# Altium schematic symbol library CY7C1061AV33.Schlib: 1 symbol
Pins are listed as number, name and electrical type; pins without a type are passive.

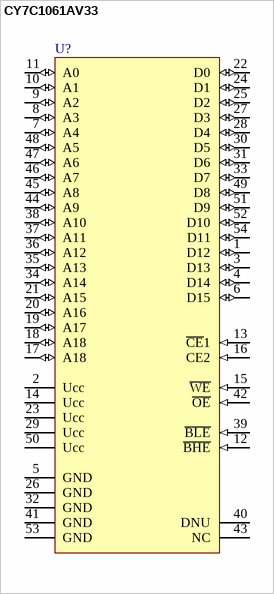
[diagram p0: symbol CY7C1061AV33]

## CY7C1061AV33
designator U?
1Mx16 Static RAM; Package Information: Latest Revision: ver11.0, Feb-2003; Configures: APEX II, APEX 20K, Mercury, ACEX 1K & FLEX Devices; Code - JEDEC: MS-026-ABA; Published: 17-Sep-2003; Datasheet: Latest Revision: ver1.1, Oct-2003; Package Reference: TQFP32; Publisher: Altium Limited
footprint SSOP-54
pins: 1 D12 (io), 2 Ucc (power), 3 D13 (io), 4 D14 (io), 5 GND (power), 6 D15 (io), 7 A4 (io), 8 A3 (io), 9 A2 (io), 10 A1 (io), 11 A0 (io), 12 ~{BHE} (in), 13 ~{CE}1 (in), 14 Ucc (power), 15 ~{WE} (in), 16 CE2 (in), 17 A18 (io), 18 A18 (io), 19 A17 (io), 20 A16 (io), 21 A15 (io), 22 D0 (io), 23 Ucc (power), 24 D1 (io), 25 D2 (io), 26 GND (power), 27 D3 (io), 28 D4 (io), 29 Ucc (power), 30 D5 (io), 31 D6 (io), 32 GND (power), 33 D7 (io), 34 A14 (io), 35 A13 (io), 36 A12 (io), 37 A11 (io), 38 A10 (io), 39 ~{BLE} (in), 40 DNU "Do Not Use", 41 GND (power), 42 ~{OE} (in), 43 NC "Not Connected", 44 A9 (io), 45 A8 (io), 46 A7 (io), 47 A6 (io), 48 A5 (io), 49 D8 (io), 50 Ucc (power), 51 D9 (io), 52 D10 (io), 53 GND (power), 54 D11 (io)